# Altium schematic symbol library Components - 18.07.26 - 22.38.SchLib: 1 symbol
Pins are listed as number, name and electrical type; pins without a type are passive.

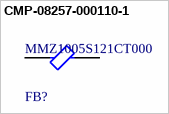
[diagram p0: symbol CMP-08257-000110-1]

## CMP-08257-000110-1
designator FB?, comment MMZ1005S121CT000
Signal Line Ferrite Bead 120Ω @ 100MHz 500mA DCR 220mΩ SMD 0402; DC Resistance (DCR): 250mR; Tolerance: 25%; Impedance: 120R; Series: MMZ; Height: 0.022inch; RoHS Compliant: Yes; Package Quantity: 1; REACH SVHC: No SVHC; Lead Free: Lead Free; Current Rating: 500mA; Packaging: Tape and Reel; Case Code (Imperial): 0402; Width: 0.02inch; Max DC Current: 500mA; Core Material: Ferrite; Case Code (Metric): 1005; Depth: 0.5mm; Case/Package: 0402; Mount: Surface Mount; Length: 0.039inch
footprint FP-MMZ1005-IPC_C
footprint FP-MMZ1005-IPC_B
footprint FP-MMZ1005-IPC_A
footprint FP-MMZ1005-MFG
pins: 1, 2